# Altium schematic symbol library SCH - DRIVER - LED - TI TLC6C5816-Q1PWP.SchLib: 1 symbol
Pins are listed as number, name and electrical type; pins without a type are passive.

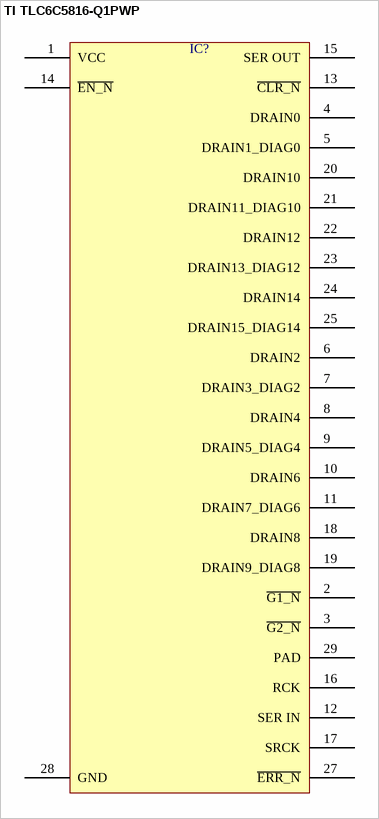
[diagram p0: symbol TI TLC6C5816-Q1PWP]

## TI TLC6C5816-Q1PWP
designator IC?  (value not drawn)
pins: 1 VCC, 2 ~{G1_N}, 3 ~{G2_N}, 4 DRAIN0, 5 DRAIN1_DIAG0, 6 DRAIN2, 7 DRAIN3_DIAG2, 8 DRAIN4, 9 DRAIN5_DIAG4, 10 DRAIN6, 11 DRAIN7_DIAG6, 12 SER IN, 13 ~{CLR_N}, 14 ~{EN_N}, 15 SER OUT, 16 RCK, 17 SRCK, 18 DRAIN8, 19 DRAIN9_DIAG8, 20 DRAIN10, 21 DRAIN11_DIAG10, 22 DRAIN12, 23 DRAIN13_DIAG12, 24 DRAIN14, 25 DRAIN15_DIAG14, 27 ~{ERR_N}, 28 GND, 29 PAD